# EAGLE library part 2-1734592-0 (library J-TEConnectivity-X-1734592-X)
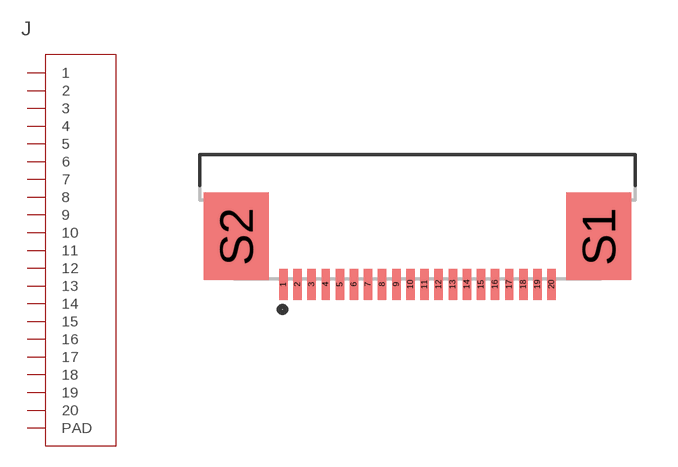
[diagram p1: symbol with the pads of TE_2-1734592-0; footprint TE_2-1734592-0]

Designator prefix J

## 2-1734592-0  [TE_2-1734592-0]
1  1  pas
2  2  pas
3  3  pas
4  4  pas
5  5  pas
6  6  pas
7  7  pas
8  8  pas
9  9  pas
10  10  pas
11  11  pas
12  12  pas
13  13  pas
14  14  pas
15  15  pas
16  16  pas
17  17  pas
18  18  pas
19  19  pas
20  20  pas
S1  PAD
S2  PAD

## Footprint TE_2-1734592-0 (pad centres in mm)
smd 0.3 x 1.1: 1 -4.75,0; 2 -4.25,0; 3 -3.75,0; 4 -3.25,0; 5 -2.75,0; 6 -2.25,0; 7 -1.75,0; 8 -1.25,0; 9 -0.75,0; 10 -0.25,0; 11 0.25,0; 12 0.75,0; 13 1.25,0; 14 1.75,0; 15 2.25,0; 16 2.75,0; 17 3.25,0; 18 3.75,0; 19 4.25,0; 20 4.75,0
smd 2.3 x 3.1: S1 6.42,1.7; S2 -6.42,1.7